# Altium schematic symbol library MF-MSMF020-2.SchLib: 1 symbol
Pins are listed as number, name and electrical type; pins without a type are passive.

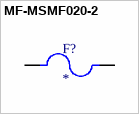
[diagram p0: symbol MF-MSMF020-2]

## MF-MSMF020-2
designator F?
Polymeric PTC Resettable Fuse 30V 200 mA Ih Surface Mount 1812 (4532 Metric), Concave; MP: MF-MSMF020-2; MF: Bourns; Package: 1812 Bourns; Price: None; Availability: In Stock; Value: *; Check_prices: https://www.snapeda.com/parts/MF-MSMF020-2/Bourns/view-part/?ref=eda; Purchase-URL: https://pricing.snapeda.com/search/part/MF-MSMF020-2/?ref=eda; SnapEDA_Link: https://www.snapeda.com/parts/MF-MSMF020-2/Bourns/view-part/?ref=snap
footprint FUSER_MF-MSMF020-2
pins: 1, 2